# EAGLE library part CON-12 (library firefly)
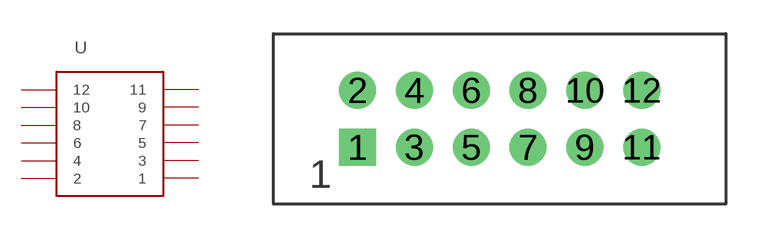
[diagram p40: symbol with the pads of CON-HEADER-2X6; footprint CON-HEADER-2X6]

Designator prefix -

## CON-12CON-HEADER-2X6  [CON-HEADER-2X6]
1  1
2  2
3  3
4  4
5  5
6  6
7  7
8  8
9  9
10  10
11  11
12  12

## Footprint CON-HEADER-2X6 (pad centres in mm)
drill 1.102 square: 1 -6.35,-1.27
drill 1.102: 2 -6.35,1.27; 3 -3.81,-1.27; 4 -3.81,1.27; 5 -1.27,-1.27; 6 -1.27,1.27; 7 1.27,-1.27; 8 1.27,1.27; 9 3.81,-1.27; 10 3.81,1.27; 11 6.35,-1.27; 12 6.35,1.27